# EAGLE library part KEL8817-200-170S-F (library A3660)
Original design by Edu Arana Pinout corrected and signals added by John Hertell
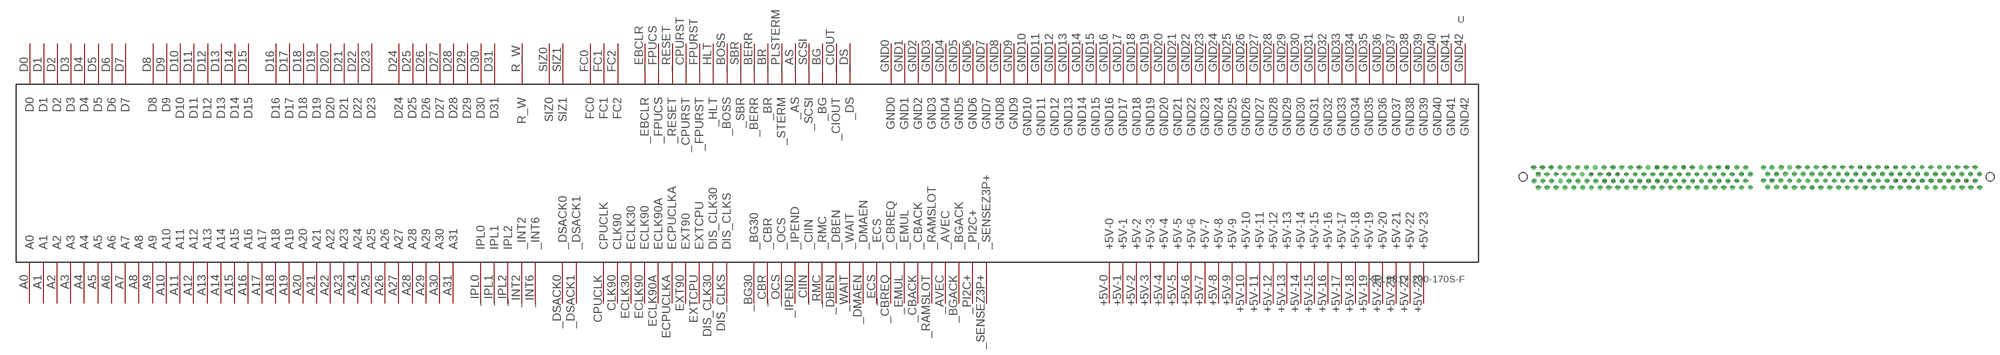
[diagram p1: symbol with the pads of KEL8817-200-170S-F; footprint KEL8817-200-170S-F]

Designator prefix -

## KEL8817-200-170S-F  [KEL8817-200-170S-F]
+5V-0  +5V-0
+5V-1  +5V-1
+5V-2  +5V-2
+5V-3  +5V-3
+5V-4  +5V-4
+5V-5  +5V-5
+5V-6  +5V-6
+5V-7  +5V-7
+5V-8  +5V-8
+5V-9  +5V-9
+5V-10  +5V-10
+5V-11  +5V-11
+5V-12  +5V-12
+5V-13  +5V-13
+5V-14  +5V-14
+5V-15  +5V-15
+5V-16  +5V-16
+5V-17  +5V-17
+5V-18  +5V-18
+5V-19  +5V-19
+5V-20  +5V-20
+5V-21  +5V-21
+5V-22  +5V-22
+5V-23  +5V-23
_AS  _AS
_AVEC  _AVEC
_BERR  _BERR
_BG  _BG
_BG30  _BG30
_BGACK  _BGACK
_BOSS  _BOSS
_BR  _BR
_CBACK  _CBACK
_CBR  _CBR
_CBREQ  _CBREQ
_CIIN  _CIIN
_CIOUT  _CIOUT
_CPURST  _CPURST
_DBEN  _DBEN
_DMAEN  _DMAEN
_DS  _DS
_DSACK0  _DSACK0
_DSACK1  _DSACK1
_EBCLR  _EBCLR
_ECS  _ECS
_EMUL  _EMUL
_FPUCS  _FPUCS
_FPURST  _FPURST
_HLT  _HLT
_INT2  _INT2
_INT6  _INT6
_IPEND  _IPEND
_IPL0  IPL0
_IPL1  IPL1
_IPL2  IPL2
_OCS  _OCS
_PI2C+  _PI2C+
_PLSTERM  _STERM
_RAMSLOT  _RAMSLOT
_RESET  _RESET
_RMC  _RMC
_SBR  _SBR
_SCSI  _SCSI
_SENSEZ3P+  _SENSEZ3P+
_WAIT  _WAIT
A0  A0
A1  A1
A2  A2
A3  A3
A4  A4
A5  A5
A6  A6
A7  A7
A8  A8
A9  A9
A10  A10
A11  A11
A12  A12
A13  A13
A14  A14
A15  A15
A16  A16
A17  A17
A18  A18
A19  A19
A20  A20
A21  A21
A22  A22
A23  A23
A24  A24
A25  A25
A26  A26
A27  A27
A28  A28
A29  A29
A30  A30
A31  A31
CLK90  CLK90
CPUCLK  CPUCLK
D0  D0
D1  D1
D2  D2
D3  D3
D4  D4
D5  D5
D6  D6
D7  D7
D8  D8
D9  D9
D10  D10
D11  D11
D12  D12
D13  D13
D14  D14
D15  D15
D16  D16
D17  D17
D18  D18
D19  D19
D20  D20
D21  D21
D22  D22
D23  D23
D24  D24
D25  D25
D26  D26
D27  D27
D28  D28
D29  D29
D30  D30
D31  D31
DIS_CLK30  DIS_CLK30
DIS_CLKS  DIS_CLKS
ECLK30  ECLK30
ECLK90  ECLK90
ECLK90A  ECLK90A
ECPUCLKA  ECPUCLKA
EXT90  EXT90
EXTCPU  EXTCPU
FC0  FC0
FC1  FC1
FC2  FC2
GND0  GND0
GND1  GND1
GND2  GND2
GND3  GND3
GND4  GND4
GND5  GND5
GND6  GND6
GND7  GND7
GND8  GND8
GND9  GND9
GND10  GND10
GND11  GND11
GND12  GND12
GND13  GND13
GND14  GND14
GND15  GND15
GND16  GND16
GND17  GND17
GND18  GND18
GND19  GND19
GND20  GND20
GND21  GND21
GND22  GND22
GND23  GND23
GND24  GND24
GND25  GND25
GND26  GND26
GND27  GND27
GND28  GND28
GND29  GND29
GND30  GND30
GND31  GND31
GND32  GND32
GND33  GND33
GND34  GND34
GND35  GND35
GND36  GND36
GND37  GND37
GND38  GND38
GND39  GND39
GND40  GND40
GND41  GND41
GND42  GND42
R_W  R_W
SIZ0  SIZ0
SIZ1  SIZ1

## Footprint KEL8817-200-170S-F (pad centres in mm)
KEL 8817-200-170S-F Connector. Cad by Edu Arana
drill 0.8: 58 -28.112,2.803; 70 -20.492,2.803; 90 -7.792,2.803; 111 8.863,-2.891; 122 15.22,2.828; 123 16.569,-3.001; 146 30.46,2.828; 150 33,2.828; 158 38.08,2.828; 162 40.62,2.828; 170 45.7,2.828; 171 47.049,-3.001; +5V-0 -56.052,2.803; +5V-1 -53.512,2.803; +5V-2 -50.972,2.803; +5V-3 -48.432,2.803; +5V-4 -5.127,2.802; +5V-5 -2.554,2.792; +5V-6 2.545,2.741; +5V-7 5.025,2.763; +5V-8 48.24,2.828; +5V-9 50.78,2.828; +5V-10 53.32,2.828; +5V-11 55.86,2.828; +5V-12 57.209,-3.001; +5V-13 54.669,-3.001; +5V-14 52.129,-3.001; +5V-15 49.589,-3.001; +5V-16 6.318,-2.891; +5V-17 3.795,-2.891; +5V-18 -1.25,-2.975; +5V-19 -3.81,-2.993; +5V-20 -47.02,-2.984; +5V-21 -49.56,-2.984; +5V-22 -52.1,-2.984; +5V-23 -54.64,-2.984; _AS 24.146,0.848; _AVEC -58.463,-1.122; _BERR -44.55,0.824; _BG 6.34,0.907; _BG30 39.429,-3.001; _BGACK -61.003,-1.122; _BOSS -52.17,0.824; _BR -47.09,0.824; _CBACK -48.303,-1.122; _CBR 31.809,-3.001; _CBREQ -45.763,-1.122; _CIIN 20.398,-1.055; _CIOUT 3.795,0.907; _CPURST 8.842,0.907; _DBEN 2.545,-1.013; _DMAEN -21.62,-2.984; _DS -1.235,0.831; _DSACK0 -6.38,-2.984; _EBCLR 11.472,0.864; _ECS -2.537,-1.083; _EMUL -44.48,-2.984; _FPUCS 22.84,2.828; _FPURST 7.655,2.806; _HLT -63.543,-1.122; _INT2 -12.872,2.803; _INT6 -36.86,-2.984; _IPEND 10.135,-1.057; _IPL0 12.778,-1.055; _IPL1 15.318,-1.055; _IPL2 17.858,-1.055; _OCS 22.938,-1.055; _PI2C+ -14,-2.984; _PLSTERM -49.63,0.824; _RAMSLOT -55.923,-1.122; _RESET 13.986,0.848; _RMC 5.025,-1.035; _SBR -57.25,0.824; _SCSI -23.032,2.803; _SENSEZ3P+ 10.145,2.801; _WAIT -29.24,-2.984; A0 -43.223,-1.122; A1 -40.683,-1.122; A2 -38.143,-1.122; A3 -35.603,-1.122; A4 -33.063,-1.122; A5 -30.523,-1.122; A6 -27.983,-1.122; A7 -25.443,-1.122; A8 -42.01,0.824; A9 -39.47,0.824; A10 -36.93,0.824; A11 -34.39,0.824; A12 -31.85,0.824; A13 -29.31,0.824; A14 -26.77,0.824; A15 -24.23,0.824; A16 -21.69,0.824; A17 -19.15,0.824; A18 -16.61,0.824; A19 -14.07,0.824; A20 -11.53,0.824; A21 -8.99,0.824; A22 -6.45,0.824; A23 -3.807,0.837; A24 -22.903,-1.122; A25 -20.363,-1.122; A26 -17.823,-1.122; A27 -15.283,-1.122; A28 -12.743,-1.122; A29 -10.203,-1.122; A30 -7.663,-1.122; A31 -5.08,-1.089; CLK90 17.76,2.828; CPUCLK 24.189,-3.001; D0 45.798,-1.055; D1 48.338,-1.055; D2 50.878,-1.055; D3 53.418,-1.055; D4 55.958,-1.055; D5 58.498,-1.055; D6 61.038,-1.055; D7 63.578,-1.055; D8 43.258,-1.055; D9 40.718,-1.055; D10 38.178,-1.055; D11 35.638,-1.055; D12 33.098,-1.055; D13 30.558,-1.055; D14 28.018,-1.055; D15 25.478,-1.055; D16 47.006,0.848; D17 49.546,0.848; D18 52.086,0.848; D19 54.626,0.848; D20 57.166,0.848; D21 59.706,0.848; D22 62.246,0.848; D23 64.786,0.848; D24 44.466,0.848; D25 41.926,0.848; D26 39.386,0.848; D27 36.846,0.848; D28 34.306,0.848; D29 31.766,0.848; D30 29.226,0.848; D31 26.686,0.848; DIS_CLK30 -15.412,2.803; DIS_CLKS -45.892,2.803; ECLK30 -43.352,2.803; ECLK90 -35.732,2.803; ECLK90A -38.272,2.803; ECPUCLKA -30.652,2.803; EXT90 -54.71,0.824; EXTCPU 7.569,-1.035; FC0 -53.383,-1.122; FC1 -50.843,-1.122; FC2 19.066,0.848; GND0 -63.672,2.803; GND1 -61.132,2.803; GND2 -58.592,2.803; GND3 -40.812,2.803; GND4 -33.192,2.803; GND5 -25.572,2.803; GND6 -17.952,2.803; GND7 -10.332,2.803; GND8 12.68,2.828; GND9 20.3,2.828; GND10 25.38,2.828; GND11 27.92,2.828; GND12 35.54,2.828; GND13 43.16,2.828; GND14 58.4,2.828; GND15 60.94,2.828; GND16 63.48,2.828; GND17 64.829,-3.001; GND18 62.289,-3.001; GND19 59.749,-3.001; GND20 44.509,-3.001; GND21 41.969,-3.001; GND22 36.889,-3.001; GND23 34.349,-3.001; GND24 29.269,-3.001; GND25 26.729,-3.001; GND26 21.649,-3.001; GND27 19.109,-3.001; GND28 14.029,-3.001; GND29 11.429,-2.977; GND30 -8.92,-2.984; GND31 -11.46,-2.984; GND32 -16.54,-2.984; GND33 -19.08,-2.984; GND34 -24.16,-2.984; GND35 -26.7,-2.984; GND36 -31.78,-2.984; GND37 -34.32,-2.984; GND38 -39.4,-2.984; GND39 -41.94,-2.984; GND40 -57.18,-2.984; GND41 -59.72,-2.984; GND42 -62.26,-2.984; R_W -59.79,0.824; SIZ0 16.526,0.848; SIZ1 21.606,0.848
drill 0.8 square: _DSACK1 -62.33,0.824
hole 2.362 at 67.903,0.042
hole 2.362 at -66.68,0.042